# Altium integrated library Cypress Clocks & Buffers Clock Generation.IntLib: 249 symbols (part 8 of 12)
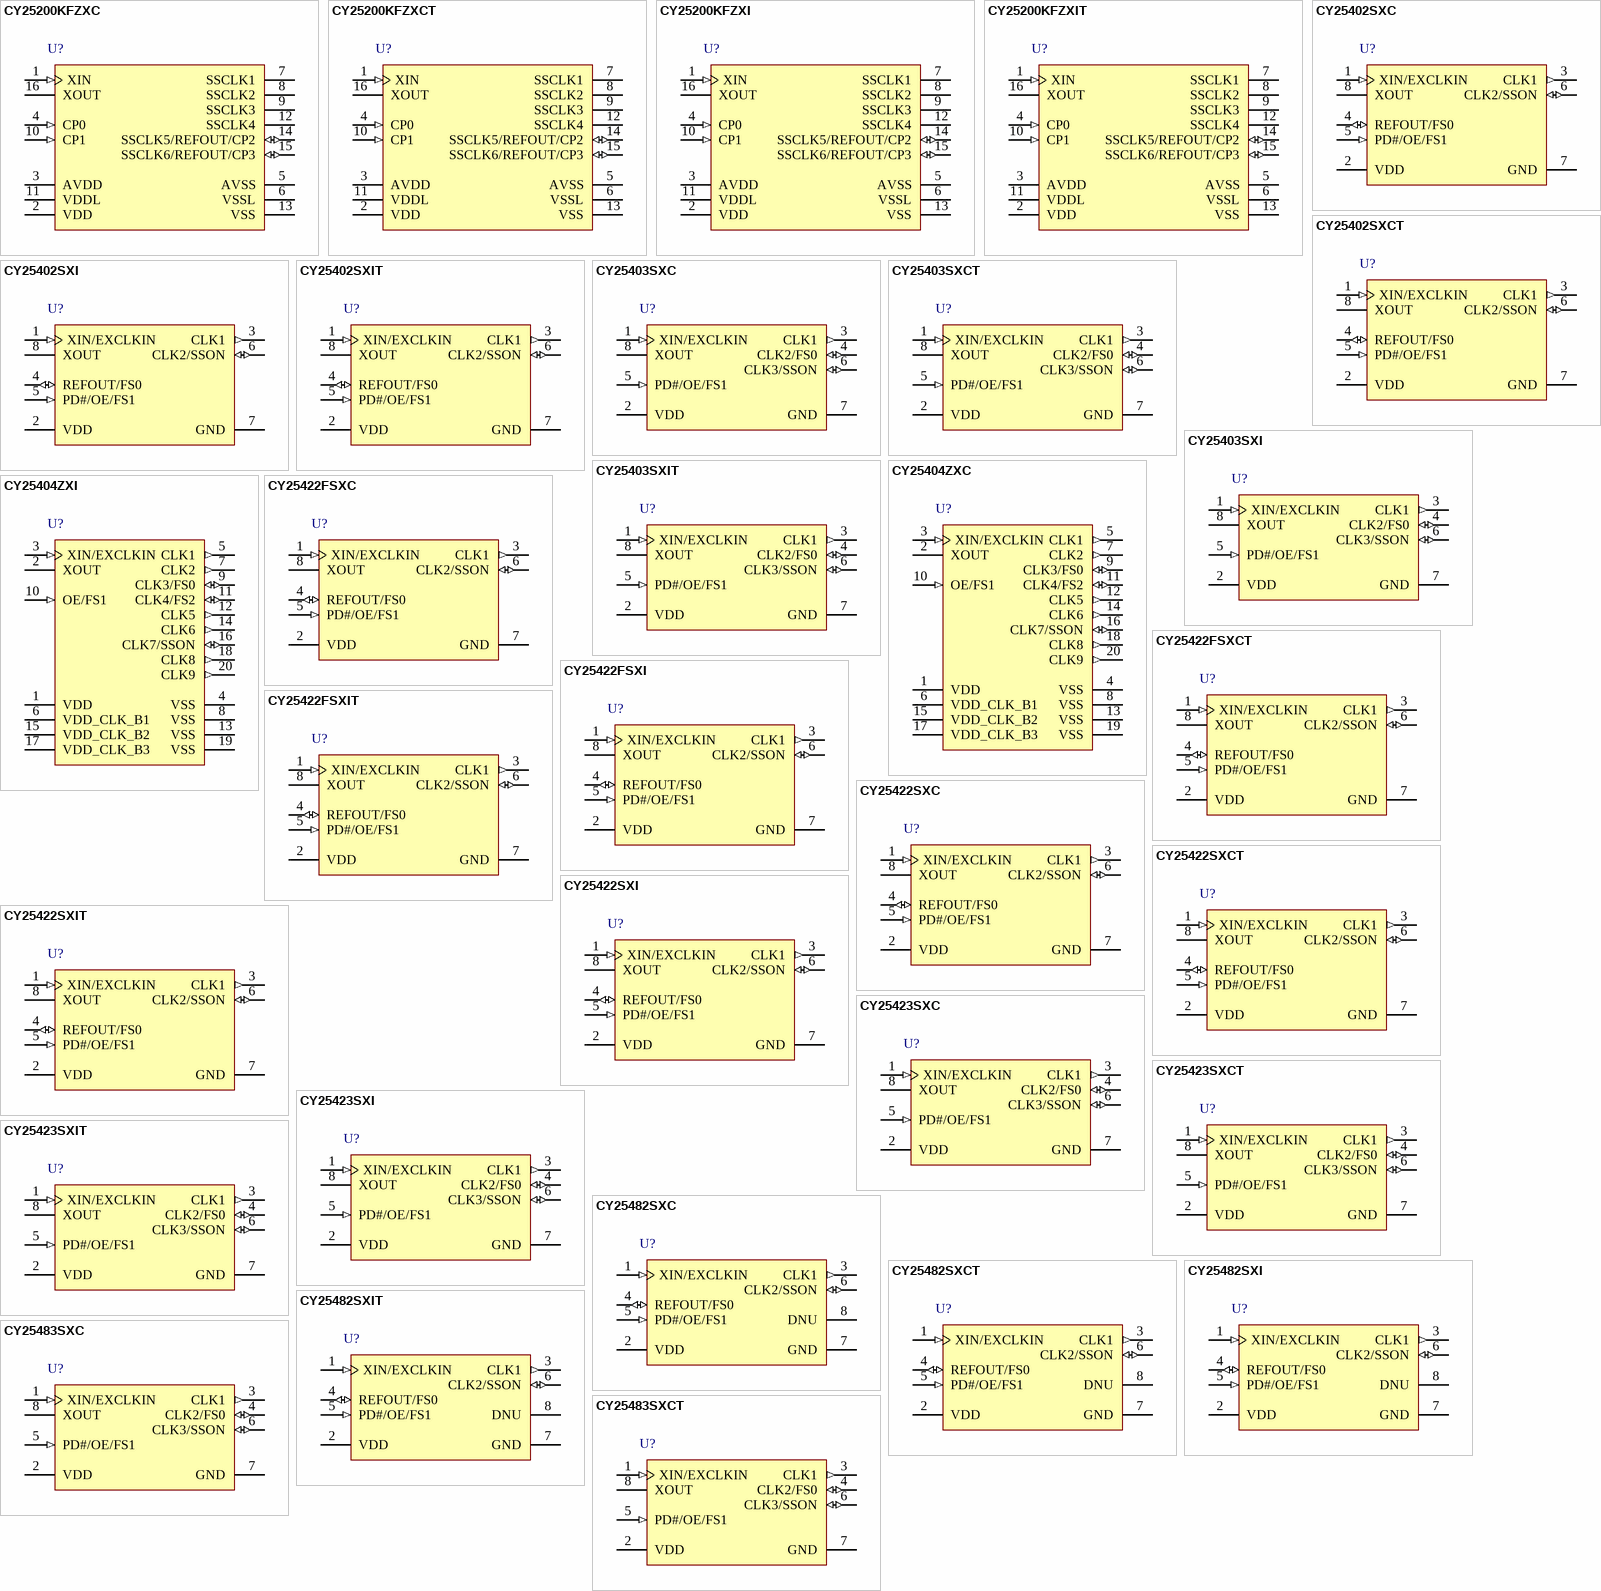
[diagram p15: symbols CY25200KFZXC to CY25483SXCT]

## CY25402SXI
designator U?
Two PLL Programmable Clock Generator with Spread Spectrum, 1.8 V, 3 Outputs, 3 to 166 MHz, -40 to 85 degC, 8-Pin SOIC (SX8), Tube; Manufacturer: Cypress; PartNumber: CY25402SXI; Input Frequency Max. (MHz): 166; Input Frequency Min. (MHz): 8; Max. Operating Voltage (V): 3.6; Min. Operating Voltage (V): 2.25; No. of Outputs: 3; DatasheetVersion: Rev. *G; PackageVersion: Rev. *E, 06/2011; PackageReference: SX8; PackageDescription: 8-pin Lead SOIC-S08, Body 4.89 x 3.90 mm,Pitch 1.27 mm; Max. Operating Temp. (degreesC): 85; Min. Operating Temp. (degreesC): -40; Output Frequency Max. (MHz): 166; Output Frequency Min. (MHz): 3; Packing: Tube; RoHS: Pb-Free; Mounting Technology: Surface Mount; Code_JEDEC: MS-012; ComponentLink1Description: Manufacturer URL; ComponentLink1URL: http://www.cypress.com/; ComponentLink2Description: Datasheet; ComponentLink2URL: http://www.cypress.com/?docID=47412; ComponentLink3Description: Package Specification; ComponentLink3URL: http://www.cypress.com/?docID=39153
footprint CYP-SX8_N (SOIC, 8-Leads, Body 4.89x3.90mm, Pitch 1.27mm, IPC Medium Density)
footprint CYP-SX8_L (SOIC, 8-Leads, Body 4.89x3.90mm, Pitch 1.27mm, IPC High Density)
footprint CYP-SX8_M (SOIC, 8-Leads, Body 4.89x3.90mm, Pitch 1.27mm, IPC Low Density)
pins: 1 XIN/EXCLKIN (in) "?Crystal input or 1.8 V External clock input", 2 VDD (power) "Power supply: 2.5 V, 3.0 V, or 3.3 V", 3 CLK1 (out) "Programmable clock output with spread spectrum", 4 REFOUT/FS0 (io) "Multifunction programmable pin: Reference clock output or frequency select pin", 5 PD#/OE/FS1 (in) "Multifunction programmable pin: Power-down, output enable or Frequency select pin", 6 CLK2/SSON (io) "Multifunction programmable pin: Programmable clock output with spread spectrum or Spread spectrum ON/OFF control pin", 7 GND (power) "Power supply ground", 8 XOUT "Crystal output"

## CY25402SXIT
designator U?
Two PLL Programmable Clock Generator with Spread Spectrum, 1.8 V, 3 Outputs, 3 to 166 MHz, -40 to 85 degC, 8-Pin SOIC (SX8), Tape and Reel; Manufacturer: Cypress; PartNumber: CY25402SXIT; Input Frequency Max. (MHz): 166; Input Frequency Min. (MHz): 8; Max. Operating Voltage (V): 3.6; Min. Operating Voltage (V): 2.25; No. of Outputs: 3; DatasheetVersion: Rev. *G; PackageVersion: Rev. *E, 06/2011; PackageReference: SX8; PackageDescription: 8-pin Lead SOIC-S08, Body 4.89 x 3.90 mm,Pitch 1.27 mm; Max. Operating Temp. (degreesC): 85; Min. Operating Temp. (degreesC): -40; Output Frequency Max. (MHz): 166; Output Frequency Min. (MHz): 3; Packing: Tape and Reel; RoHS: Pb-Free; Mounting Technology: Surface Mount; Code_JEDEC: MS-012; ComponentLink1Description: Manufacturer URL; ComponentLink1URL: http://www.cypress.com/; ComponentLink2Description: Datasheet; ComponentLink2URL: http://www.cypress.com/?docID=47412; ComponentLink3Description: Package Specification; ComponentLink3URL: http://www.cypress.com/?docID=39153
footprint CYP-SX8_N (SOIC, 8-Leads, Body 4.89x3.90mm, Pitch 1.27mm, IPC Medium Density)
footprint CYP-SX8_L (SOIC, 8-Leads, Body 4.89x3.90mm, Pitch 1.27mm, IPC High Density)
footprint CYP-SX8_M (SOIC, 8-Leads, Body 4.89x3.90mm, Pitch 1.27mm, IPC Low Density)
pins: 1 XIN/EXCLKIN (in) "?Crystal input or 1.8 V External clock input", 2 VDD (power) "Power supply: 2.5 V, 3.0 V, or 3.3 V", 3 CLK1 (out) "Programmable clock output with spread spectrum", 4 REFOUT/FS0 (io) "Multifunction programmable pin: Reference clock output or frequency select pin", 5 PD#/OE/FS1 (in) "Multifunction programmable pin: Power-down, output enable or Frequency select pin", 6 CLK2/SSON (io) "Multifunction programmable pin: Programmable clock output with spread spectrum or Spread spectrum ON/OFF control pin", 7 GND (power) "Power supply ground", 8 XOUT "Crystal output"

## CY25403SXC
designator U?
Three PLL Programmable Clock Generator with Spread Spectrum, 2.5 / 3.0 / 3.3 V, 3 Outputs, 3 to 166 MHz, 0 to 70 degC, 8-Pin SOIC (SX8), Tube; Manufacturer: Cypress; PartNumber: CY25403SXC; Input Frequency Max. (MHz): 166; Input Frequency Min. (MHz): 8; Max. Operating Voltage (V): 3.6; Min. Operating Voltage (V): 2.25; No. of Outputs: 3; DatasheetVersion: Rev. *F; PackageVersion: Rev. *E, 06/2011; PackageReference: SX8; PackageDescription: 8-pin Lead SOIC-S08, Body 4.89 x 3.90 mm,Pitch 1.27 mm; Max. Operating Temp. (degreesC): 70; Min. Operating Temp. (degreesC): 0; Output Frequency Max. (MHz): 166; Output Frequency Min. (MHz): 3; Packing: Tube; RoHS: Pb-Free; Mounting Technology: Surface Mount; Code_JEDEC: MS-012; ComponentLink1Description: Manufacturer URL; ComponentLink1URL: http://www.cypress.com/; ComponentLink2Description: Datasheet; ComponentLink2URL: http://www.cypress.com/?docID=30306; ComponentLink3Description: Package Specification; ComponentLink3URL: http://www.cypress.com/?docID=39153
footprint CYP-SX8_N (SOIC, 8-Leads, Body 4.89x3.90mm, Pitch 1.27mm, IPC Medium Density)
footprint CYP-SX8_L (SOIC, 8-Leads, Body 4.89x3.90mm, Pitch 1.27mm, IPC High Density)
footprint CYP-SX8_M (SOIC, 8-Leads, Body 4.89x3.90mm, Pitch 1.27mm, IPC Low Density)
pins: 1 XIN/EXCLKIN (in) "?Crystal input or 1.8 V External clock input", 2 VDD (power) "Power supply: 2.5 V, 3.0 V, or 3.3 V", 3 CLK1 (out) "Programmable clock output with spread spectrum", 4 CLK2/FS0 (io) "Multifunction programmable pin: programmable clock output with no spread spectrum or frequency select pin", 5 PD#/OE/FS1 (in) "Multifunction programmable pin: Power-down, output enable or Frequency select pin", 6 CLK3/SSON (io) "Multifunction programmable pin: Programmable clock output with spread spectrum or Spread spectrum ON/OFF control pin", 7 GND (power) "Power supply ground", 8 XOUT "Crystal output"

## CY25403SXCT
designator U?
Three PLL Programmable Clock Generator with Spread Spectrum, 2.5 / 3.0 / 3.3 V, 3 Outputs, 3 to 166 MHz, 0 to 70 degC, 8-Pin SOIC (SX8), Tape and Reel; Manufacturer: Cypress; PartNumber: CY25403SXCT; Input Frequency Max. (MHz): 166; Input Frequency Min. (MHz): 8; Max. Operating Voltage (V): 3.6; Min. Operating Voltage (V): 2.25; No. of Outputs: 3; DatasheetVersion: Rev. *F; PackageVersion: Rev. *E, 06/2011; PackageReference: SX8; PackageDescription: 8-pin Lead SOIC-S08, Body 4.89 x 3.90 mm,Pitch 1.27 mm; Max. Operating Temp. (degreesC): 70; Min. Operating Temp. (degreesC): 0; Output Frequency Max. (MHz): 166; Output Frequency Min. (MHz): 3; Packing: Tape and Reel; RoHS: Pb-Free; Mounting Technology: Surface Mount; Code_JEDEC: MS-012; ComponentLink1Description: Manufacturer URL; ComponentLink1URL: http://www.cypress.com/; ComponentLink2Description: Datasheet; ComponentLink2URL: http://www.cypress.com/?docID=30306; ComponentLink3Description: Package Specification; ComponentLink3URL: http://www.cypress.com/?docID=39153
footprint CYP-SX8_N (SOIC, 8-Leads, Body 4.89x3.90mm, Pitch 1.27mm, IPC Medium Density)
footprint CYP-SX8_L (SOIC, 8-Leads, Body 4.89x3.90mm, Pitch 1.27mm, IPC High Density)
footprint CYP-SX8_M (SOIC, 8-Leads, Body 4.89x3.90mm, Pitch 1.27mm, IPC Low Density)
pins: 1 XIN/EXCLKIN (in) "?Crystal input or 1.8 V External clock input", 2 VDD (power) "Power supply: 2.5 V, 3.0 V, or 3.3 V", 3 CLK1 (out) "Programmable clock output with spread spectrum", 4 CLK2/FS0 (io) "Multifunction programmable pin: programmable clock output with no spread spectrum or frequency select pin", 5 PD#/OE/FS1 (in) "Multifunction programmable pin: Power-down, output enable or Frequency select pin", 6 CLK3/SSON (io) "Multifunction programmable pin: Programmable clock output with spread spectrum or Spread spectrum ON/OFF control pin", 7 GND (power) "Power supply ground", 8 XOUT "Crystal output"

## CY25403SXI
designator U?
Three PLL Programmable Clock Generator with Spread Spectrum, 2.5 / 3.0 / 3.3 V, 3 Outputs, 3 to 166 MHz, -40 to 85 degC, 8-Pin SOIC (SX8), Tube; Manufacturer: Cypress; PartNumber: CY25403SXI; Input Frequency Max. (MHz): 166; Input Frequency Min. (MHz): 8; Max. Operating Voltage (V): 3.6; Min. Operating Voltage (V): 2.25; No. of Outputs: 3; DatasheetVersion: Rev. *F; PackageVersion: Rev. *E, 06/2011; PackageReference: SX8; PackageDescription: 8-pin Lead SOIC-S08, Body 4.89 x 3.90 mm,Pitch 1.27 mm; Max. Operating Temp. (degreesC): 85; Min. Operating Temp. (degreesC): -40; Output Frequency Max. (MHz): 166; Output Frequency Min. (MHz): 3; Packing: Tube; RoHS: Pb-Free; Mounting Technology: Surface Mount; Code_JEDEC: MS-012; ComponentLink1Description: Manufacturer URL; ComponentLink1URL: http://www.cypress.com/; ComponentLink2Description: Datasheet; ComponentLink2URL: http://www.cypress.com/?docID=30306; ComponentLink3Description: Package Specification; ComponentLink3URL: http://www.cypress.com/?docID=39153
footprint CYP-SX8_N (SOIC, 8-Leads, Body 4.89x3.90mm, Pitch 1.27mm, IPC Medium Density)
footprint CYP-SX8_L (SOIC, 8-Leads, Body 4.89x3.90mm, Pitch 1.27mm, IPC High Density)
footprint CYP-SX8_M (SOIC, 8-Leads, Body 4.89x3.90mm, Pitch 1.27mm, IPC Low Density)
pins: 1 XIN/EXCLKIN (in) "?Crystal input or 1.8 V External clock input", 2 VDD (power) "Power supply: 2.5 V, 3.0 V, or 3.3 V", 3 CLK1 (out) "Programmable clock output with spread spectrum", 4 CLK2/FS0 (io) "Multifunction programmable pin: programmable clock output with no spread spectrum or frequency select pin", 5 PD#/OE/FS1 (in) "Multifunction programmable pin: Power-down, output enable or Frequency select pin", 6 CLK3/SSON (io) "Multifunction programmable pin: Programmable clock output with spread spectrum or Spread spectrum ON/OFF control pin", 7 GND (power) "Power supply ground", 8 XOUT "Crystal output"

## CY25403SXIT
designator U?
Three PLL Programmable Clock Generator with Spread Spectrum, 2.5 / 3.0 / 3.3 V, 3 Outputs, 3 to 166 MHz, -40 to 85 degC, 8-Pin SOIC (SX8), Tape and Reel; Manufacturer: Cypress; PartNumber: CY25403SXIT; Input Frequency Max. (MHz): 166; Input Frequency Min. (MHz): 8; Max. Operating Voltage (V): 3.6; Min. Operating Voltage (V): 2.25; No. of Outputs: 3; DatasheetVersion: Rev. *F; PackageVersion: Rev. *E, 06/2011; PackageReference: SX8; PackageDescription: 8-pin Lead SOIC-S08, Body 4.89 x 3.90 mm,Pitch 1.27 mm; Max. Operating Temp. (degreesC): 85; Min. Operating Temp. (degreesC): -40; Output Frequency Max. (MHz): 166; Output Frequency Min. (MHz): 3; Packing: Tape and Reel; RoHS: Pb-Free; Mounting Technology: Surface Mount; Code_JEDEC: MS-012; ComponentLink1Description: Manufacturer URL; ComponentLink1URL: http://www.cypress.com/; ComponentLink2Description: Datasheet; ComponentLink2URL: http://www.cypress.com/?docID=30306; ComponentLink3Description: Package Specification; ComponentLink3URL: http://www.cypress.com/?docID=39153
footprint CYP-SX8_N (SOIC, 8-Leads, Body 4.89x3.90mm, Pitch 1.27mm, IPC Medium Density)
footprint CYP-SX8_L (SOIC, 8-Leads, Body 4.89x3.90mm, Pitch 1.27mm, IPC High Density)
footprint CYP-SX8_M (SOIC, 8-Leads, Body 4.89x3.90mm, Pitch 1.27mm, IPC Low Density)
pins: 1 XIN/EXCLKIN (in) "?Crystal input or 1.8 V External clock input", 2 VDD (power) "Power supply: 2.5 V, 3.0 V, or 3.3 V", 3 CLK1 (out) "Programmable clock output with spread spectrum", 4 CLK2/FS0 (io) "Multifunction programmable pin: programmable clock output with no spread spectrum or frequency select pin", 5 PD#/OE/FS1 (in) "Multifunction programmable pin: Power-down, output enable or Frequency select pin", 6 CLK3/SSON (io) "Multifunction programmable pin: Programmable clock output with spread spectrum or Spread spectrum ON/OFF control pin", 7 GND (power) "Power supply ground", 8 XOUT "Crystal output"

## CY25404ZXC
designator U?
Quad PLL Programmable Clock Generator with Spread Spectrum, 2.5 / 3.0 / 3.3 V, 9 Outputs, 3 to 166 MHz, 0 to 70 degC, 20-Pin TSSOP (ZX20), Tube; Manufacturer: Cypress; PartNumber: CY25404ZXC; Input Frequency Max. (MHz): 166; Input Frequency Min. (MHz): 8; Max. Operating Voltage (V): 3.6; Min. Operating Voltage (V): 2.25; No. of Outputs: 9; Output Frequency Min. (MHz): 3; DatasheetVersion: Rev. *C; PackageVersion: Rev. *D, 09/2011; PackageReference: ZX20; PackageDescription: 20-Pin Thin Shrink Small Outline Package, Body 6.5 x 4.4 mm, Pitch 0.65 mm; Max. Operating Temp. (degreesC): 70; Min. Operating Temp. (degreesC): 0; Output Frequency Max. (MHz): 166; Packing: Tube; RoHS: Pb-Free; Mounting Technology: Surface Mount; Code_JEDEC: MO-153; ComponentLink1Description: Manufacturer URL; ComponentLink1URL: http://www.cypress.com/; ComponentLink2Description: Datasheet; ComponentLink2URL: http://www.cypress.com/?docID=30235; ComponentLink3Description: Package Specification; ComponentLink3URL: http://www.cypress.com/?docID=39121
footprint CYP-ZX20_N (SOP, 20-Leads, Body 6.6x4.5mm, Pitch 0.65mm, IPC Medium Density)
footprint CYP-ZX20_L (SOP, 20-Leads, Body 6.6x4.5mm, Pitch 0.65mm, IPC High Density)
footprint CYP-ZX20_M (SOP, 20-Leads, Body 6.6x4.5mm, Pitch 0.65mm, IPC Low Density)
pins: 1 VDD (power) "Power supply: 2.5 V/3.0 V/3.3 V", 2 XOUT "Crystal output", 3 XIN/EXCLKIN (in) "Crystal Input or 1.8 V external clock input", 4 VSS (power) "Power supply ground", 5 CLK1 (out) "Programmable clock output. Output voltage depends on VDD_CLK_B1 voltage", 6 VDD_CLK_B1 (power) "Power supply for Bank1, (CLK1, CLK2, CLK3) outputs: 2.5 V/3.0 V/3.3 V", 7 CLK2 (out) "Programmable clock output. Output voltage depends on VDD_CLK_B1 voltage", 8 VSS (power) "Power supply ground", 9 CLK3/FS0 (io) "Multifunction programmable pin: Programmable clock output or frequency select input pin. Output voltage of CLK3 depends on VDD_CLK_B1 voltage", 10 OE/FS1 (in) "Multifunction programmable pin: High-true output enable or frequency select pin", 11 CLK4/FS2 (io) "Multifunction programmable pin: Programmable clock output or frequency select input pin. Output voltage of CLK4 depends on VDD_CLK_B2 Voltage", 12 CLK5 (out) "Programmable clock output. Output voltage depends on VDD_CLK_B2 voltage", 13 VSS (power) "Power supply ground", 14 CLK6 (out) "Programmable clock output. Output voltage depends on VDD_CLK_B2 voltage", 15 VDD_CLK_B2 (power) "Power supply for Bank2, (CLK4, CLK5, CLK6) outputs: 2.5 V/3.0 V/3.3 V", 16 CLK7/SSON (io) "Multifunction programmable pin. Programmable clock output or spread spectrum On/OFF control input pin. Output voltage of CLK7 depends on VDD_CLK_B3 voltage", 17 VDD_CLK_B3 (power) "Power supply for Bank3, (CLK7, CLK8, CLK9) outputs: 2.5 V/3.0 V/3.3 V", 18 CLK8 (out) "Programmable clock output. Output voltage depends on VDD_CLK_B3 voltage", 19 VSS (power) "Power supply ground", 20 CLK9 (out) "Programmable clock output. Output voltage depends on VDD_CLK_B3 voltage"

## CY25404ZXI
designator U?
Quad PLL Programmable Clock Generator with Spread Spectrum, 2.5 / 3.0 / 3.3 V, 9 Outputs, 3 to 166 MHz, -40 to 85 degC, 20-Pin TSSOP (ZX20), Tube; Manufacturer: Cypress; PartNumber: CY25404ZXI; Input Frequency Max. (MHz): 166; Input Frequency Min. (MHz): 8; Max. Operating Voltage (V): 3.6; Min. Operating Voltage (V): 2.25; No. of Outputs: 9; Output Frequency Min. (MHz): 3; DatasheetVersion: Rev. *C; PackageVersion: Rev. *D, 09/2011; PackageReference: ZX20; PackageDescription: 20-Pin Thin Shrink Small Outline Package, Body 6.5 x 4.4 mm, Pitch 0.65 mm; Max. Operating Temp. (degreesC): 85; Min. Operating Temp. (degreesC): -40; Output Frequency Max. (MHz): 166; Packing: Tube; RoHS: Pb-Free; Mounting Technology: Surface Mount; Code_JEDEC: MO-153; ComponentLink1Description: Manufacturer URL; ComponentLink1URL: http://www.cypress.com/; ComponentLink2Description: Datasheet; ComponentLink2URL: http://www.cypress.com/?docID=30235; ComponentLink3Description: Package Specification; ComponentLink3URL: http://www.cypress.com/?docID=39121
footprint CYP-ZX20_N (SOP, 20-Leads, Body 6.6x4.5mm, Pitch 0.65mm, IPC Medium Density)
footprint CYP-ZX20_L (SOP, 20-Leads, Body 6.6x4.5mm, Pitch 0.65mm, IPC High Density)
footprint CYP-ZX20_M (SOP, 20-Leads, Body 6.6x4.5mm, Pitch 0.65mm, IPC Low Density)
pins: 1 VDD (power) "Power supply: 2.5 V/3.0 V/3.3 V", 2 XOUT "Crystal output", 3 XIN/EXCLKIN (in) "Crystal Input or 1.8 V external clock input", 4 VSS (power) "Power supply ground", 5 CLK1 (out) "Programmable clock output. Output voltage depends on VDD_CLK_B1 voltage", 6 VDD_CLK_B1 (power) "Power supply for Bank1, (CLK1, CLK2, CLK3) outputs: 2.5 V/3.0 V/3.3 V", 7 CLK2 (out) "Programmable clock output. Output voltage depends on VDD_CLK_B1 voltage", 8 VSS (power) "Power supply ground", 9 CLK3/FS0 (io) "Multifunction programmable pin: Programmable clock output or frequency select input pin. Output voltage of CLK3 depends on VDD_CLK_B1 voltage", 10 OE/FS1 (in) "Multifunction programmable pin: High-true output enable or frequency select pin", 11 CLK4/FS2 (io) "Multifunction programmable pin: Programmable clock output or frequency select input pin. Output voltage of CLK4 depends on VDD_CLK_B2 Voltage", 12 CLK5 (out) "Programmable clock output. Output voltage depends on VDD_CLK_B2 voltage", 13 VSS (power) "Power supply ground", 14 CLK6 (out) "Programmable clock output. Output voltage depends on VDD_CLK_B2 voltage", 15 VDD_CLK_B2 (power) "Power supply for Bank2, (CLK4, CLK5, CLK6) outputs: 2.5 V/3.0 V/3.3 V", 16 CLK7/SSON (io) "Multifunction programmable pin. Programmable clock output or spread spectrum On/OFF control input pin. Output voltage of CLK7 depends on VDD_CLK_B3 voltage", 17 VDD_CLK_B3 (power) "Power supply for Bank3, (CLK7, CLK8, CLK9) outputs: 2.5 V/3.0 V/3.3 V", 18 CLK8 (out) "Programmable clock output. Output voltage depends on VDD_CLK_B3 voltage", 19 VSS (power) "Power supply ground", 20 CLK9 (out) "Programmable clock output. Output voltage depends on VDD_CLK_B3 voltage"

## CY25422FSXC
designator U?
Two PLL Programmable Clock Generator with Spread Spectrum, 1.8 V, 3 Outputs, 3 to 166 MHz, 0 to 70 degC, 8-Pin SOIC (SX8), Tube; Manufacturer: Cypress; PartNumber: CY25422FSXC; Input Frequency Max. (MHz): 166; Input Frequency Min. (MHz): 8; Max. Operating Voltage (V): 1.95; Min. Operating Voltage (V): 1.65; No. of Outputs: 3; DatasheetVersion: Rev. *G; PackageVersion: Rev. *E, 06/2011; PackageReference: SX8; PackageDescription: 8-pin Lead SOIC-S08, Body 4.89 x 3.90 mm,Pitch 1.27 mm; Max. Operating Temp. (degreesC): 70; Min. Operating Temp. (degreesC): 0; Output Frequency Max. (MHz): 166; Output Frequency Min. (MHz): 3; Packing: Tube; RoHS: Pb-Free; Mounting Technology: Surface Mount; Code_JEDEC: MS-012; ComponentLink1Description: Manufacturer URL; ComponentLink1URL: http://www.cypress.com/; ComponentLink2Description: Datasheet; ComponentLink2URL: http://www.cypress.com/?docID=47412; ComponentLink3Description: Package Specification; ComponentLink3URL: http://www.cypress.com/?docID=39153
footprint CYP-SX8_N (SOIC, 8-Leads, Body 4.89x3.90mm, Pitch 1.27mm, IPC Medium Density)
footprint CYP-SX8_L (SOIC, 8-Leads, Body 4.89x3.90mm, Pitch 1.27mm, IPC High Density)
footprint CYP-SX8_M (SOIC, 8-Leads, Body 4.89x3.90mm, Pitch 1.27mm, IPC Low Density)
pins: 1 XIN/EXCLKIN (in) "Crystal input or 1.8 V external clock input", 2 VDD (power) "Power supply: 1.8 V", 3 CLK1 (out) "Programmable clock output with spread spectrum", 4 REFOUT/FS0 (io) "Multifunction programmable pin: reference clock output or frequency select pin", 5 PD#/OE/FS1 (in) "Multifunction programmable pin: power-down, output enable or frequency select pin", 6 CLK2/SSON (io) "Multifunction programmable pin: programmable clock output with spread spectrum or spread spectrum ON/OFF control pin", 7 GND (power) "Power supply ground", 8 XOUT "Crystal output"

## CY25422FSXCT
designator U?
Two PLL Programmable Clock Generator with Spread Spectrum, 1.8 V, 3 Outputs, 3 to 166 MHz, 0 to 70 degC, 8-Pin SOIC (SX8), Tape and Reel; Manufacturer: Cypress; PartNumber: CY25422FSXCT; Input Frequency Max. (MHz): 166; Input Frequency Min. (MHz): 8; Max. Operating Voltage (V): 1.95; Min. Operating Voltage (V): 1.65; No. of Outputs: 3; DatasheetVersion: Rev. *G; PackageVersion: Rev. *E, 06/2011; PackageReference: SX8; PackageDescription: 8-pin Lead SOIC-S08, Body 4.89 x 3.90 mm,Pitch 1.27 mm; Max. Operating Temp. (degreesC): 70; Min. Operating Temp. (degreesC): 0; Output Frequency Max. (MHz): 166; Output Frequency Min. (MHz): 3; Packing: Tape and Reel; RoHS: Pb-Free; Mounting Technology: Surface Mount; Code_JEDEC: MS-012; ComponentLink1Description: Manufacturer URL; ComponentLink1URL: http://www.cypress.com/; ComponentLink2Description: Datasheet; ComponentLink2URL: http://www.cypress.com/?docID=47412; ComponentLink3Description: Package Specification; ComponentLink3URL: http://www.cypress.com/?docID=39153
footprint CYP-SX8_N (SOIC, 8-Leads, Body 4.89x3.90mm, Pitch 1.27mm, IPC Medium Density)
footprint CYP-SX8_L (SOIC, 8-Leads, Body 4.89x3.90mm, Pitch 1.27mm, IPC High Density)
footprint CYP-SX8_M (SOIC, 8-Leads, Body 4.89x3.90mm, Pitch 1.27mm, IPC Low Density)
pins: 1 XIN/EXCLKIN (in) "Crystal input or 1.8 V external clock input", 2 VDD (power) "Power supply: 1.8 V", 3 CLK1 (out) "Programmable clock output with spread spectrum", 4 REFOUT/FS0 (io) "Multifunction programmable pin: reference clock output or frequency select pin", 5 PD#/OE/FS1 (in) "Multifunction programmable pin: power-down, output enable or frequency select pin", 6 CLK2/SSON (io) "Multifunction programmable pin: programmable clock output with spread spectrum or spread spectrum ON/OFF control pin", 7 GND (power) "Power supply ground", 8 XOUT "Crystal output"

## CY25422FSXI
designator U?
Two PLL Programmable Clock Generator with Spread Spectrum, 1.8 V, 3 Outputs, 3 to 166 MHz, -40 to 85 degC, 8-Pin SOIC (SX8), Tube; Manufacturer: Cypress; PartNumber: CY25422FSXI; Input Frequency Max. (MHz): 166; Input Frequency Min. (MHz): 8; Max. Operating Voltage (V): 1.95; Min. Operating Voltage (V): 1.65; No. of Outputs: 3; DatasheetVersion: Rev. *G; PackageVersion: Rev. *E, 06/2011; PackageReference: SX8; PackageDescription: 8-pin Lead SOIC-S08, Body 4.89 x 3.90 mm,Pitch 1.27 mm; Supplier 1: Digi-Key; Supplier Part Number 1: CY25422FSXI-ND; Supplier 2: Mouser; Supplier Part Number 2: 727-CY25422FSXI; Max. Operating Temp. (degreesC): 85; Min. Operating Temp. (degreesC): -40; Output Frequency Max. (MHz): 166; Output Frequency Min. (MHz): 3; Packing: Tube; RoHS: Pb-Free; Mounting Technology: Surface Mount; Code_JEDEC: MS-012; ComponentLink1Description: Manufacturer URL; ComponentLink1URL: http://www.cypress.com/; ComponentLink2Description: Datasheet; ComponentLink2URL: http://www.cypress.com/?docID=47412; ComponentLink3Description: Package Specification; ComponentLink3URL: http://www.cypress.com/?docID=39153
footprint CYP-SX8_N (SOIC, 8-Leads, Body 4.89x3.90mm, Pitch 1.27mm, IPC Medium Density)
footprint CYP-SX8_L (SOIC, 8-Leads, Body 4.89x3.90mm, Pitch 1.27mm, IPC High Density)
footprint CYP-SX8_M (SOIC, 8-Leads, Body 4.89x3.90mm, Pitch 1.27mm, IPC Low Density)
pins: 1 XIN/EXCLKIN (in) "Crystal input or 1.8 V external clock input", 2 VDD (power) "Power supply: 1.8 V", 3 CLK1 (out) "Programmable clock output with spread spectrum", 4 REFOUT/FS0 (io) "Multifunction programmable pin: reference clock output or frequency select pin", 5 PD#/OE/FS1 (in) "Multifunction programmable pin: power-down, output enable or frequency select pin", 6 CLK2/SSON (io) "Multifunction programmable pin: programmable clock output with spread spectrum or spread spectrum ON/OFF control pin", 7 GND (power) "Power supply ground", 8 XOUT "Crystal output"

## CY25422FSXIT
designator U?
Two PLL Programmable Clock Generator with Spread Spectrum, 1.8 V, 3 Outputs, 3 to 166 MHz, -40 to 85 degC, 8-Pin SOIC (SX8), Tape and Reel; Manufacturer: Cypress; PartNumber: CY25422FSXIT; Input Frequency Max. (MHz): 166; Input Frequency Min. (MHz): 8; Max. Operating Voltage (V): 1.95; Min. Operating Voltage (V): 1.65; No. of Outputs: 3; DatasheetVersion: Rev. *G; PackageVersion: Rev. *E, 06/2011; PackageReference: SX8; PackageDescription: 8-pin Lead SOIC-S08, Body 4.89 x 3.90 mm,Pitch 1.27 mm; Supplier 1: Digi-Key; Supplier Part Number 1: CY25422FSXIT-ND; Supplier 2: Mouser; Supplier Part Number 2: 727-CY25422FSXIT; Max. Operating Temp. (degreesC): 85; Min. Operating Temp. (degreesC): -40; Output Frequency Max. (MHz): 166; Output Frequency Min. (MHz): 3; Packing: Tape and Reel; RoHS: Pb-Free; Mounting Technology: Surface Mount; Code_JEDEC: MS-012; ComponentLink1Description: Manufacturer URL; ComponentLink1URL: http://www.cypress.com/; ComponentLink2Description: Datasheet; ComponentLink2URL: http://www.cypress.com/?docID=47412; ComponentLink3Description: Package Specification; ComponentLink3URL: http://www.cypress.com/?docID=39153
footprint CYP-SX8_N (SOIC, 8-Leads, Body 4.89x3.90mm, Pitch 1.27mm, IPC Medium Density)
footprint CYP-SX8_L (SOIC, 8-Leads, Body 4.89x3.90mm, Pitch 1.27mm, IPC High Density)
footprint CYP-SX8_M (SOIC, 8-Leads, Body 4.89x3.90mm, Pitch 1.27mm, IPC Low Density)
pins: 1 XIN/EXCLKIN (in) "Crystal input or 1.8 V external clock input", 2 VDD (power) "Power supply: 1.8 V", 3 CLK1 (out) "Programmable clock output with spread spectrum", 4 REFOUT/FS0 (io) "Multifunction programmable pin: reference clock output or frequency select pin", 5 PD#/OE/FS1 (in) "Multifunction programmable pin: power-down, output enable or frequency select pin", 6 CLK2/SSON (io) "Multifunction programmable pin: programmable clock output with spread spectrum or spread spectrum ON/OFF control pin", 7 GND (power) "Power supply ground", 8 XOUT "Crystal output"

## CY25422SXC
designator U?
Two PLL Programmable Clock Generator with Spread Spectrum, 1.8 V, 3 Outputs, 3 to 166 MHz, 0 to 70 degC, 8-Pin SOIC (SX8), Tube; Manufacturer: Cypress; PartNumber: CY25422SXC; Input Frequency Max. (MHz): 166; Input Frequency Min. (MHz): 8; Max. Operating Voltage (V): 1.95; Min. Operating Voltage (V): 1.65; No. of Outputs: 3; DatasheetVersion: Rev. *G; PackageVersion: Rev. *E, 06/2011; PackageReference: SX8; PackageDescription: 8-pin Lead SOIC-S08, Body 4.89 x 3.90 mm,Pitch 1.27 mm; Max. Operating Temp. (degreesC): 70; Min. Operating Temp. (degreesC): 0; Output Frequency Max. (MHz): 166; Output Frequency Min. (MHz): 3; Packing: Tube; RoHS: Pb-Free; Mounting Technology: Surface Mount; Code_JEDEC: MS-012; ComponentLink1Description: Manufacturer URL; ComponentLink1URL: http://www.cypress.com/; ComponentLink2Description: Datasheet; ComponentLink2URL: http://www.cypress.com/?docID=47412; ComponentLink3Description: Package Specification; ComponentLink3URL: http://www.cypress.com/?docID=39153
footprint CYP-SX8_N (SOIC, 8-Leads, Body 4.89x3.90mm, Pitch 1.27mm, IPC Medium Density)
footprint CYP-SX8_L (SOIC, 8-Leads, Body 4.89x3.90mm, Pitch 1.27mm, IPC High Density)
footprint CYP-SX8_M (SOIC, 8-Leads, Body 4.89x3.90mm, Pitch 1.27mm, IPC Low Density)
pins: 1 XIN/EXCLKIN (in) "Crystal input or 1.8 V external clock input", 2 VDD (power) "Power supply: 1.8 V", 3 CLK1 (out) "Programmable clock output with spread spectrum", 4 REFOUT/FS0 (io) "Multifunction programmable pin: reference clock output or frequency select pin", 5 PD#/OE/FS1 (in) "Multifunction programmable pin: power-down, output enable or frequency select pin", 6 CLK2/SSON (io) "Multifunction programmable pin: programmable clock output with spread spectrum or spread spectrum ON/OFF control pin", 7 GND (power) "Power supply ground", 8 XOUT "Crystal output"

## CY25422SXCT
designator U?
Two PLL Programmable Clock Generator with Spread Spectrum, 1.8 V, 3 Outputs, 3 to 166 MHz, 0 to 70 degC, 8-Pin SOIC (SX8), Tape and Reel; Manufacturer: Cypress; PartNumber: CY25422SXCT; Input Frequency Max. (MHz): 166; Input Frequency Min. (MHz): 8; Max. Operating Voltage (V): 1.95; Min. Operating Voltage (V): 1.65; No. of Outputs: 3; DatasheetVersion: Rev. *G; PackageVersion: Rev. *E, 06/2011; PackageReference: SX8; PackageDescription: 8-pin Lead SOIC-S08, Body 4.89 x 3.90 mm,Pitch 1.27 mm; Max. Operating Temp. (degreesC): 70; Min. Operating Temp. (degreesC): 0; Output Frequency Max. (MHz): 166; Output Frequency Min. (MHz): 3; Packing: Tape and Reel; RoHS: Pb-Free; Mounting Technology: Surface Mount; Code_JEDEC: MS-012; ComponentLink1Description: Manufacturer URL; ComponentLink1URL: http://www.cypress.com/; ComponentLink2Description: Datasheet; ComponentLink2URL: http://www.cypress.com/?docID=47412; ComponentLink3Description: Package Specification; ComponentLink3URL: http://www.cypress.com/?docID=39153
footprint CYP-SX8_N (SOIC, 8-Leads, Body 4.89x3.90mm, Pitch 1.27mm, IPC Medium Density)
footprint CYP-SX8_L (SOIC, 8-Leads, Body 4.89x3.90mm, Pitch 1.27mm, IPC High Density)
footprint CYP-SX8_M (SOIC, 8-Leads, Body 4.89x3.90mm, Pitch 1.27mm, IPC Low Density)
pins: 1 XIN/EXCLKIN (in) "Crystal input or 1.8 V external clock input", 2 VDD (power) "Power supply: 1.8 V", 3 CLK1 (out) "Programmable clock output with spread spectrum", 4 REFOUT/FS0 (io) "Multifunction programmable pin: reference clock output or frequency select pin", 5 PD#/OE/FS1 (in) "Multifunction programmable pin: power-down, output enable or frequency select pin", 6 CLK2/SSON (io) "Multifunction programmable pin: programmable clock output with spread spectrum or spread spectrum ON/OFF control pin", 7 GND (power) "Power supply ground", 8 XOUT "Crystal output"

## CY25422SXI
designator U?
Two PLL Programmable Clock Generator with Spread Spectrum, 1.8 V, 3 Outputs, 3 to 166 MHz, -40 to 85 degC, 8-Pin SOIC (SX8), Tube; Manufacturer: Cypress; PartNumber: CY25422SXI; Input Frequency Max. (MHz): 166; Input Frequency Min. (MHz): 8; Max. Operating Voltage (V): 1.95; Min. Operating Voltage (V): 1.65; No. of Outputs: 3; DatasheetVersion: Rev. *G; PackageVersion: Rev. *E, 06/2011; PackageReference: SX8; PackageDescription: 8-pin Lead SOIC-S08, Body 4.89 x 3.90 mm,Pitch 1.27 mm; Max. Operating Temp. (degreesC): 85; Min. Operating Temp. (degreesC): -40; Output Frequency Max. (MHz): 166; Output Frequency Min. (MHz): 3; Packing: Tube; RoHS: Pb-Free; Mounting Technology: Surface Mount; Code_JEDEC: MS-012; ComponentLink1Description: Manufacturer URL; ComponentLink1URL: http://www.cypress.com/; ComponentLink2Description: Datasheet; ComponentLink2URL: http://www.cypress.com/?docID=47412; ComponentLink3Description: Package Specification; ComponentLink3URL: http://www.cypress.com/?docID=39153
footprint CYP-SX8_N (SOIC, 8-Leads, Body 4.89x3.90mm, Pitch 1.27mm, IPC Medium Density)
footprint CYP-SX8_L (SOIC, 8-Leads, Body 4.89x3.90mm, Pitch 1.27mm, IPC High Density)
footprint CYP-SX8_M (SOIC, 8-Leads, Body 4.89x3.90mm, Pitch 1.27mm, IPC Low Density)
pins: 1 XIN/EXCLKIN (in) "Crystal input or 1.8 V external clock input", 2 VDD (power) "Power supply: 1.8 V", 3 CLK1 (out) "Programmable clock output with spread spectrum", 4 REFOUT/FS0 (io) "Multifunction programmable pin: reference clock output or frequency select pin", 5 PD#/OE/FS1 (in) "Multifunction programmable pin: power-down, output enable or frequency select pin", 6 CLK2/SSON (io) "Multifunction programmable pin: programmable clock output with spread spectrum or spread spectrum ON/OFF control pin", 7 GND (power) "Power supply ground", 8 XOUT "Crystal output"

## CY25422SXIT
designator U?
Two PLL Programmable Clock Generator with Spread Spectrum, 1.8 V, 3 Outputs, 3 to 166 MHz, -40 to 85 degC, 8-Pin SOIC (SX8), Tape and Reel; Manufacturer: Cypress; PartNumber: CY25422SXIT; Input Frequency Max. (MHz): 166; Input Frequency Min. (MHz): 8; Max. Operating Voltage (V): 1.95; Min. Operating Voltage (V): 1.65; No. of Outputs: 3; DatasheetVersion: Rev. *G; PackageVersion: Rev. *E, 06/2011; PackageReference: SX8; PackageDescription: 8-pin Lead SOIC-S08, Body 4.89 x 3.90 mm,Pitch 1.27 mm; Max. Operating Temp. (degreesC): 85; Min. Operating Temp. (degreesC): -40; Output Frequency Max. (MHz): 166; Output Frequency Min. (MHz): 3; Packing: Tape and Reel; RoHS: Pb-Free; Mounting Technology: Surface Mount; Code_JEDEC: MS-012; ComponentLink1Description: Manufacturer URL; ComponentLink1URL: http://www.cypress.com/; ComponentLink2Description: Datasheet; ComponentLink2URL: http://www.cypress.com/?docID=47412; ComponentLink3Description: Package Specification; ComponentLink3URL: http://www.cypress.com/?docID=39153
footprint CYP-SX8_N (SOIC, 8-Leads, Body 4.89x3.90mm, Pitch 1.27mm, IPC Medium Density)
footprint CYP-SX8_L (SOIC, 8-Leads, Body 4.89x3.90mm, Pitch 1.27mm, IPC High Density)
footprint CYP-SX8_M (SOIC, 8-Leads, Body 4.89x3.90mm, Pitch 1.27mm, IPC Low Density)
pins: 1 XIN/EXCLKIN (in) "Crystal input or 1.8 V external clock input", 2 VDD (power) "Power supply: 1.8 V", 3 CLK1 (out) "Programmable clock output with spread spectrum", 4 REFOUT/FS0 (io) "Multifunction programmable pin: reference clock output or frequency select pin", 5 PD#/OE/FS1 (in) "Multifunction programmable pin: power-down, output enable or frequency select pin", 6 CLK2/SSON (io) "Multifunction programmable pin: programmable clock output with spread spectrum or spread spectrum ON/OFF control pin", 7 GND (power) "Power supply ground", 8 XOUT "Crystal output"

## CY25423SXC
designator U?
Three PLL Programmable Clock Generator with Spread Spectrum, 2.5 / 3.0 / 3.3 V, 3 Outputs, 3 to 166 MHz, 0 to 70 degC, 8-Pin SOIC (SX8), Tube; Manufacturer: Cypress; PartNumber: CY25423SXC; Input Frequency Max. (MHz): 166; Input Frequency Min. (MHz): 8; Max. Operating Voltage (V): 3.6; Min. Operating Voltage (V): 2.25; No. of Outputs: 3; DatasheetVersion: Rev. *F; PackageVersion: Rev. *E, 06/2011; PackageReference: SX8; PackageDescription: 8-pin Lead SOIC-S08, Body 4.89 x 3.90 mm,Pitch 1.27 mm; Max. Operating Temp. (degreesC): 70; Min. Operating Temp. (degreesC): 0; Output Frequency Max. (MHz): 166; Output Frequency Min. (MHz): 3; Packing: Tube; RoHS: Pb-Free; Mounting Technology: Surface Mount; Code_JEDEC: MS-012; ComponentLink1Description: Manufacturer URL; ComponentLink1URL: http://www.cypress.com/; ComponentLink2Description: Datasheet; ComponentLink2URL: http://www.cypress.com/?docID=30306; ComponentLink3Description: Package Specification; ComponentLink3URL: http://www.cypress.com/?docID=39153
footprint CYP-SX8_N (SOIC, 8-Leads, Body 4.89x3.90mm, Pitch 1.27mm, IPC Medium Density)
footprint CYP-SX8_L (SOIC, 8-Leads, Body 4.89x3.90mm, Pitch 1.27mm, IPC High Density)
footprint CYP-SX8_M (SOIC, 8-Leads, Body 4.89x3.90mm, Pitch 1.27mm, IPC Low Density)
pins: 1 XIN/EXCLKIN (in) "Crystal input or 1.8 V external clock input", 2 VDD (power) "Power supply: 2.5 V, 3.0 V, or 3.3 V", 3 CLK1 (out) "Programmable clock output with spread spectrum", 4 CLK2/FS0 (io) "Multifunction programmable pin: programmable clock output with no spread spectrum or frequency select pin", 5 PD#/OE/FS1 (in) "Multifunction programmable pin: power-down, output enable, or frequency select pin", 6 CLK3/SSON (io) "Multifunction programmable pin: programmable clock output with spread spectrum or spread spectrum ON/OFF control pin", 7 GND (power) "Power supply ground", 8 XOUT "Crystal output"

## CY25423SXCT
designator U?
Three PLL Programmable Clock Generator with Spread Spectrum, 2.5 / 3.0 / 3.3 V, 3 Outputs, 3 to 166 MHz, 0 to 70 degC, 8-Pin SOIC (SX8), Tape and Reel; Manufacturer: Cypress; PartNumber: CY25423SXCT; Input Frequency Max. (MHz): 166; Input Frequency Min. (MHz): 8; Max. Operating Voltage (V): 3.6; Min. Operating Voltage (V): 2.25; No. of Outputs: 3; DatasheetVersion: Rev. *F; PackageVersion: Rev. *E, 06/2011; PackageReference: SX8; PackageDescription: 8-pin Lead SOIC-S08, Body 4.89 x 3.90 mm,Pitch 1.27 mm; Max. Operating Temp. (degreesC): 70; Min. Operating Temp. (degreesC): 0; Output Frequency Max. (MHz): 166; Output Frequency Min. (MHz): 3; Packing: Tape and Reel; RoHS: Pb-Free; Mounting Technology: Surface Mount; Code_JEDEC: MS-012; ComponentLink1Description: Manufacturer URL; ComponentLink1URL: http://www.cypress.com/; ComponentLink2Description: Datasheet; ComponentLink2URL: http://www.cypress.com/?docID=30306; ComponentLink3Description: Package Specification; ComponentLink3URL: http://www.cypress.com/?docID=39153
footprint CYP-SX8_N (SOIC, 8-Leads, Body 4.89x3.90mm, Pitch 1.27mm, IPC Medium Density)
footprint CYP-SX8_L (SOIC, 8-Leads, Body 4.89x3.90mm, Pitch 1.27mm, IPC High Density)
footprint CYP-SX8_M (SOIC, 8-Leads, Body 4.89x3.90mm, Pitch 1.27mm, IPC Low Density)
pins: 1 XIN/EXCLKIN (in) "Crystal input or 1.8 V external clock input", 2 VDD (power) "Power supply: 2.5 V, 3.0 V, or 3.3 V", 3 CLK1 (out) "Programmable clock output with spread spectrum", 4 CLK2/FS0 (io) "Multifunction programmable pin: programmable clock output with no spread spectrum or frequency select pin", 5 PD#/OE/FS1 (in) "Multifunction programmable pin: power-down, output enable, or frequency select pin", 6 CLK3/SSON (io) "Multifunction programmable pin: programmable clock output with spread spectrum or spread spectrum ON/OFF control pin", 7 GND (power) "Power supply ground", 8 XOUT "Crystal output"

## CY25423SXI
designator U?
Three PLL Programmable Clock Generator with Spread Spectrum, 2.5 / 3.0 / 3.3 V, 3 Outputs, 3 to 166 MHz, -40 to 85 degC, 8-Pin SOIC (SX8), Tube; Manufacturer: Cypress; PartNumber: CY25423SXI; Input Frequency Max. (MHz): 166; Input Frequency Min. (MHz): 8; Max. Operating Voltage (V): 3.6; Min. Operating Voltage (V): 2.25; No. of Outputs: 3; DatasheetVersion: Rev. *F; PackageVersion: Rev. *E, 06/2011; PackageReference: SX8; PackageDescription: 8-pin Lead SOIC-S08, Body 4.89 x 3.90 mm,Pitch 1.27 mm; Max. Operating Temp. (degreesC): 85; Min. Operating Temp. (degreesC): -40; Output Frequency Max. (MHz): 166; Output Frequency Min. (MHz): 3; Packing: Tube; RoHS: Pb-Free; Mounting Technology: Surface Mount; Code_JEDEC: MS-012; ComponentLink1Description: Manufacturer URL; ComponentLink1URL: http://www.cypress.com/; ComponentLink2Description: Datasheet; ComponentLink2URL: http://www.cypress.com/?docID=30306; ComponentLink3Description: Package Specification; ComponentLink3URL: http://www.cypress.com/?docID=39153
footprint CYP-SX8_N (SOIC, 8-Leads, Body 4.89x3.90mm, Pitch 1.27mm, IPC Medium Density)
footprint CYP-SX8_L (SOIC, 8-Leads, Body 4.89x3.90mm, Pitch 1.27mm, IPC High Density)
footprint CYP-SX8_M (SOIC, 8-Leads, Body 4.89x3.90mm, Pitch 1.27mm, IPC Low Density)
pins: 1 XIN/EXCLKIN (in) "Crystal input or 1.8 V external clock input", 2 VDD (power) "Power supply: 2.5 V, 3.0 V, or 3.3 V", 3 CLK1 (out) "Programmable clock output with spread spectrum", 4 CLK2/FS0 (io) "Multifunction programmable pin: programmable clock output with no spread spectrum or frequency select pin", 5 PD#/OE/FS1 (in) "Multifunction programmable pin: power-down, output enable, or frequency select pin", 6 CLK3/SSON (io) "Multifunction programmable pin: programmable clock output with spread spectrum or spread spectrum ON/OFF control pin", 7 GND (power) "Power supply ground", 8 XOUT "Crystal output"

## CY25423SXIT
designator U?
Three PLL Programmable Clock Generator with Spread Spectrum, 2.5 / 3.0 / 3.3 V, 3 Outputs, 3 to 166 MHz, -40 to 85 degC, 8-Pin SOIC (SX8), Tape and Reel; Manufacturer: Cypress; PartNumber: CY25423SXIT; Input Frequency Max. (MHz): 166; Input Frequency Min. (MHz): 8; Max. Operating Voltage (V): 3.6; Min. Operating Voltage (V): 2.25; No. of Outputs: 3; DatasheetVersion: Rev. *F; PackageVersion: Rev. *E, 06/2011; PackageReference: SX8; PackageDescription: 8-pin Lead SOIC-S08, Body 4.89 x 3.90 mm,Pitch 1.27 mm; Max. Operating Temp. (degreesC): 85; Min. Operating Temp. (degreesC): -40; Output Frequency Max. (MHz): 166; Output Frequency Min. (MHz): 3; Packing: Tape and Reel; RoHS: Pb-Free; Mounting Technology: Surface Mount; Code_JEDEC: MS-012; ComponentLink1Description: Manufacturer URL; ComponentLink1URL: http://www.cypress.com/; ComponentLink2Description: Datasheet; ComponentLink2URL: http://www.cypress.com/?docID=30306; ComponentLink3Description: Package Specification; ComponentLink3URL: http://www.cypress.com/?docID=39153
footprint CYP-SX8_N (SOIC, 8-Leads, Body 4.89x3.90mm, Pitch 1.27mm, IPC Medium Density)
footprint CYP-SX8_L (SOIC, 8-Leads, Body 4.89x3.90mm, Pitch 1.27mm, IPC High Density)
footprint CYP-SX8_M (SOIC, 8-Leads, Body 4.89x3.90mm, Pitch 1.27mm, IPC Low Density)
pins: 1 XIN/EXCLKIN (in) "Crystal input or 1.8 V external clock input", 2 VDD (power) "Power supply: 2.5 V, 3.0 V, or 3.3 V", 3 CLK1 (out) "Programmable clock output with spread spectrum", 4 CLK2/FS0 (io) "Multifunction programmable pin: programmable clock output with no spread spectrum or frequency select pin", 5 PD#/OE/FS1 (in) "Multifunction programmable pin: power-down, output enable, or frequency select pin", 6 CLK3/SSON (io) "Multifunction programmable pin: programmable clock output with spread spectrum or spread spectrum ON/OFF control pin", 7 GND (power) "Power supply ground", 8 XOUT "Crystal output"

## CY25482SXC
designator U?
Two PLL Programmable Clock Generator with Spread Spectrum, 2.5 / 3.0 / 3.3 V, 3 Outputs, 3 to 166 MHz, 0 to 70 degC, 8-Pin SOIC (SX8), Tube; Manufacturer: Cypress; PartNumber: CY25482SXC; Input Frequency Max. (MHz): 166; Input Frequency Min. (MHz): 8; Max. Operating Voltage (V): 3.6; Min. Operating Voltage (V): 2.25; No. of Outputs: 3; DatasheetVersion: Rev. *G; PackageVersion: Rev. *E, 06/2011; PackageReference: SX8; PackageDescription: 8-pin Lead SOIC-S08, Body 4.89 x 3.90 mm,Pitch 1.27 mm; Max. Operating Temp. (degreesC): 70; Min. Operating Temp. (degreesC): 0; Output Frequency Max. (MHz): 166; Output Frequency Min. (MHz): 3; Packing: Tube; RoHS: Pb-Free; Mounting Technology: Surface Mount; Code_JEDEC: MS-012; ComponentLink1Description: Manufacturer URL; ComponentLink1URL: http://www.cypress.com/; ComponentLink2Description: Datasheet; ComponentLink2URL: http://www.cypress.com/?docID=47412; ComponentLink3Description: Package Specification; ComponentLink3URL: http://www.cypress.com/?docID=39153
footprint CYP-SX8_N (SOIC, 8-Leads, Body 4.89x3.90mm, Pitch 1.27mm, IPC Medium Density)
footprint CYP-SX8_L (SOIC, 8-Leads, Body 4.89x3.90mm, Pitch 1.27mm, IPC High Density)
footprint CYP-SX8_M (SOIC, 8-Leads, Body 4.89x3.90mm, Pitch 1.27mm, IPC Low Density)
pins: 1 XIN/EXCLKIN (in) "2.5 V, 3.0 V, or 3.3 V external clock input", 2 VDD (power) "Power Supply: 2.5 V, 3.0 V, or 3.3 V", 3 CLK1 (out) "Programmable clock output with spread spectrum", 4 REFOUT/FS0 (io) "Multifunction programmable pin: reference clock output or frequency select pin", 5 PD#/OE/FS1 (in) "Multifunction programmable pin: power-down, output enable or frequency select pin", 6 CLK2/SSON (io) "Multifunction programmable pin: programmable clock output with spread spectrum or spread spectrum ON/OFF control pin", 7 GND (power) "Power supply ground", 8 DNU "Do not use this pin"

## CY25482SXCT
designator U?
Two PLL Programmable Clock Generator with Spread Spectrum, 2.5 / 3.0 / 3.3 V, 3 Outputs, 3 to 166 MHz, 0 to 70 degC, 8-Pin SOIC (SX8), Tape and Reel; Manufacturer: Cypress; PartNumber: CY25482SXCT; Input Frequency Max. (MHz): 166; Input Frequency Min. (MHz): 8; Max. Operating Voltage (V): 3.6; Min. Operating Voltage (V): 2.25; No. of Outputs: 3; DatasheetVersion: Rev. *G; PackageVersion: Rev. *E, 06/2011; PackageReference: SX8; PackageDescription: 8-pin Lead SOIC-S08, Body 4.89 x 3.90 mm,Pitch 1.27 mm; Max. Operating Temp. (degreesC): 70; Min. Operating Temp. (degreesC): 0; Output Frequency Max. (MHz): 166; Output Frequency Min. (MHz): 3; Packing: Tape and Reel; RoHS: Pb-Free; Mounting Technology: Surface Mount; Code_JEDEC: MS-012; ComponentLink1Description: Manufacturer URL; ComponentLink1URL: http://www.cypress.com/; ComponentLink2Description: Datasheet; ComponentLink2URL: http://www.cypress.com/?docID=47412; ComponentLink3Description: Package Specification; ComponentLink3URL: http://www.cypress.com/?docID=39153
footprint CYP-SX8_N (SOIC, 8-Leads, Body 4.89x3.90mm, Pitch 1.27mm, IPC Medium Density)
footprint CYP-SX8_L (SOIC, 8-Leads, Body 4.89x3.90mm, Pitch 1.27mm, IPC High Density)
footprint CYP-SX8_M (SOIC, 8-Leads, Body 4.89x3.90mm, Pitch 1.27mm, IPC Low Density)
pins: 1 XIN/EXCLKIN (in) "2.5 V, 3.0 V, or 3.3 V external clock input", 2 VDD (power) "Power Supply: 2.5 V, 3.0 V, or 3.3 V", 3 CLK1 (out) "Programmable clock output with spread spectrum", 4 REFOUT/FS0 (io) "Multifunction programmable pin: reference clock output or frequency select pin", 5 PD#/OE/FS1 (in) "Multifunction programmable pin: power-down, output enable or frequency select pin", 6 CLK2/SSON (io) "Multifunction programmable pin: programmable clock output with spread spectrum or spread spectrum ON/OFF control pin", 7 GND (power) "Power supply ground", 8 DNU "Do not use this pin"

## CY25482SXI
designator U?
Two PLL Programmable Clock Generator with Spread Spectrum, 2.5 / 3.0 / 3.3 V, 3 Outputs, 3 to 166 MHz, -40 to 85 degC, 8-Pin SOIC (SX8), Tube; Manufacturer: Cypress; PartNumber: CY25482SXI; Input Frequency Max. (MHz): 166; Input Frequency Min. (MHz): 8; Max. Operating Voltage (V): 3.6; Min. Operating Voltage (V): 2.25; No. of Outputs: 3; DatasheetVersion: Rev. *G; PackageVersion: Rev. *E, 06/2011; PackageReference: SX8; PackageDescription: 8-pin Lead SOIC-S08, Body 4.89 x 3.90 mm,Pitch 1.27 mm; Max. Operating Temp. (degreesC): 85; Min. Operating Temp. (degreesC): -40; Output Frequency Max. (MHz): 166; Output Frequency Min. (MHz): 3; Packing: Tube; RoHS: Pb-Free; Mounting Technology: Surface Mount; Code_JEDEC: MS-012; ComponentLink1Description: Manufacturer URL; ComponentLink1URL: http://www.cypress.com/; ComponentLink2Description: Datasheet; ComponentLink2URL: http://www.cypress.com/?docID=47412; ComponentLink3Description: Package Specification; ComponentLink3URL: http://www.cypress.com/?docID=39153
footprint CYP-SX8_N (SOIC, 8-Leads, Body 4.89x3.90mm, Pitch 1.27mm, IPC Medium Density)
footprint CYP-SX8_L (SOIC, 8-Leads, Body 4.89x3.90mm, Pitch 1.27mm, IPC High Density)
footprint CYP-SX8_M (SOIC, 8-Leads, Body 4.89x3.90mm, Pitch 1.27mm, IPC Low Density)
pins: 1 XIN/EXCLKIN (in) "2.5 V, 3.0 V, or 3.3 V external clock input", 2 VDD (power) "Power Supply: 2.5 V, 3.0 V, or 3.3 V", 3 CLK1 (out) "Programmable clock output with spread spectrum", 4 REFOUT/FS0 (io) "Multifunction programmable pin: reference clock output or frequency select pin", 5 PD#/OE/FS1 (in) "Multifunction programmable pin: power-down, output enable or frequency select pin", 6 CLK2/SSON (io) "Multifunction programmable pin: programmable clock output with spread spectrum or spread spectrum ON/OFF control pin", 7 GND (power) "Power supply ground", 8 DNU "Do not use this pin"

## CY25482SXIT
designator U?
Two PLL Programmable Clock Generator with Spread Spectrum, 2.5 / 3.0 / 3.3 V, 3 Outputs, 3 to 166 MHz, -40 to 85 degC, 8-Pin SOIC (SX8), Tape and Reel; Manufacturer: Cypress; PartNumber: CY25482SXIT; Input Frequency Max. (MHz): 166; Input Frequency Min. (MHz): 8; Max. Operating Voltage (V): 3.6; Min. Operating Voltage (V): 2.25; No. of Outputs: 3; DatasheetVersion: Rev. *G; PackageVersion: Rev. *E, 06/2011; PackageReference: SX8; PackageDescription: 8-pin Lead SOIC-S08, Body 4.89 x 3.90 mm,Pitch 1.27 mm; Max. Operating Temp. (degreesC): 85; Min. Operating Temp. (degreesC): -40; Output Frequency Max. (MHz): 166; Output Frequency Min. (MHz): 3; Packing: Tape and Reel; RoHS: Pb-Free; Mounting Technology: Surface Mount; Code_JEDEC: MS-012; ComponentLink1Description: Manufacturer URL; ComponentLink1URL: http://www.cypress.com/; ComponentLink2Description: Datasheet; ComponentLink2URL: http://www.cypress.com/?docID=47412; ComponentLink3Description: Package Specification; ComponentLink3URL: http://www.cypress.com/?docID=39153
footprint CYP-SX8_N (SOIC, 8-Leads, Body 4.89x3.90mm, Pitch 1.27mm, IPC Medium Density)
footprint CYP-SX8_L (SOIC, 8-Leads, Body 4.89x3.90mm, Pitch 1.27mm, IPC High Density)
footprint CYP-SX8_M (SOIC, 8-Leads, Body 4.89x3.90mm, Pitch 1.27mm, IPC Low Density)
pins: 1 XIN/EXCLKIN (in) "2.5 V, 3.0 V, or 3.3 V external clock input", 2 VDD (power) "Power Supply: 2.5 V, 3.0 V, or 3.3 V", 3 CLK1 (out) "Programmable clock output with spread spectrum", 4 REFOUT/FS0 (io) "Multifunction programmable pin: reference clock output or frequency select pin", 5 PD#/OE/FS1 (in) "Multifunction programmable pin: power-down, output enable or frequency select pin", 6 CLK2/SSON (io) "Multifunction programmable pin: programmable clock output with spread spectrum or spread spectrum ON/OFF control pin", 7 GND (power) "Power supply ground", 8 DNU "Do not use this pin"